# EAGLE library part BTM-230 (library rayson__btm_bluetooth_modul)
BC04-EXT Class1 Module The module is a Max.17dBm( Class1 ) module. Bluetooth v2.0+EDR system. 3.0V to 3.6V operation Interface: USB, UART&PCM( for voice codec) Integrated with 8M bits flash memory. Integrated chip antenna SPP firmware with AT commands RoHS compliant. Small outline. 35.3 x 14 x 2.5 mm.
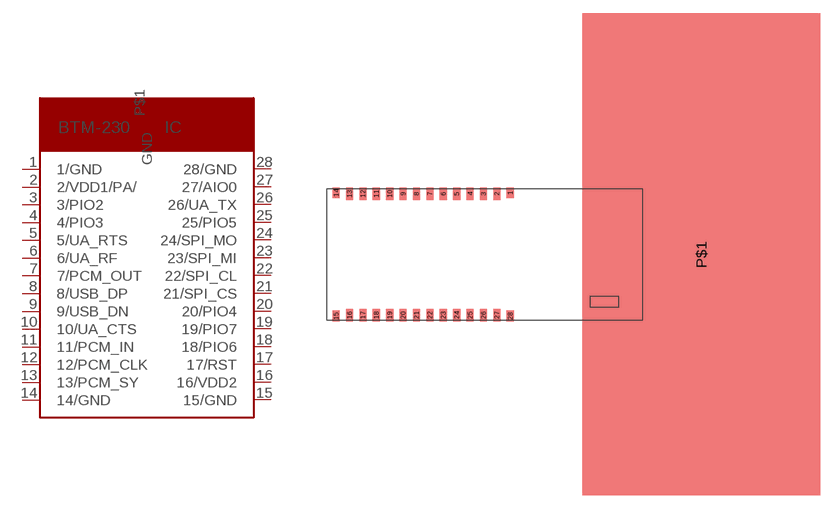
[diagram p10: symbol with the pads of BTM-230; footprint BTM-230]

Designator prefix IC

## BTM-230  [BTM-230]
1  1/GND  pwr
2  2/VDD1/PA/  pwr
3  3/PIO2
4  4/PIO3
5  5/UA_RTS
6  6/UA_RF
7  7/PCM_OUT  out
8  8/USB_DP
9  9/USB_DN
10  10/UA_CTS
11  11/PCM_IN  in
12  12/PCM_CLK
13  13/PCM_SY
14  14/GND  pwr
15  15/GND  pwr
16  16/VDD2  pwr
17  17/RST  in
18  18/PIO6
19  19/PIO7
20  20/PIO4
21  21/SPI_CS
22  22/SPI_CL
23  23/SPI_MI
24  24/SPI_MO
25  25/PIO5
26  26/UA_TX
27  27/AIO0
28  28/GND  pwr
P$1  GND  pwr

## Footprint BTM-230 (pad centres in mm)
smd 0.81 x 1.2: 1 -14.8,6.9; 14 -34.3,6.9; 15 -34.3,-6.9; 28 -14.8,-6.9
smd 0.81 x 1.4: 2 -16.3,6.8; 3 -17.8,6.8; 4 -19.3,6.8; 5 -20.8,6.8; 6 -22.3,6.8; 7 -23.8,6.8; 8 -25.3,6.8; 9 -26.8,6.8; 10 -28.3,6.8; 11 -29.8,6.8; 12 -31.3,6.8; 13 -32.8,6.8; 16 -32.8,-6.8; 17 -31.3,-6.8; 18 -29.8,-6.8; 19 -28.3,-6.8; 20 -26.8,-6.8; 21 -25.3,-6.8; 22 -23.8,-6.8; 23 -22.3,-6.8; 24 -20.8,-6.8; 25 -19.3,-6.8; 26 -17.8,-6.8; 27 -16.3,-6.8
smd 26.6 x 54: P$1 6.6,0